# EAGLE library part OV7670 (library Misc)
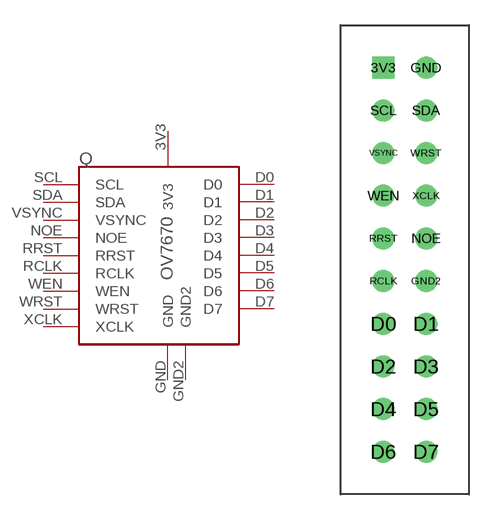
[diagram p0: symbol with the pads of OV7670; footprint OV7670]

Designator prefix Q

## OV7670  [OV7670]
3V3  3V3  pwr
D0  D0  out
D1  D1  out
D2  D2  out
D3  D3  out
D4  D4  out
D5  D5  out
D6  D6  out
D7  D7  out
GND  GND  pwr
GND2  GND2  pwr
NOE  NOE  in
RCLK  RCLK  in
RRST  RRST  in
SCL  SCL  in
SDA  SDA
VSYNC  VSYNC  out
WEN  WEN  in
WRST  WRST  in
XCLK  XCLK  out

## Footprint OV7670 (pad centres in mm)
drill 0.8 square: 3V3 0,0
drill 0.8: D0 0,-15.24; D1 2.54,-15.24; D2 0,-17.78; D3 2.54,-17.78; D4 0,-20.32; D5 2.54,-20.32; D6 0,-22.86; D7 2.54,-22.86; GND 2.54,0; GND2 2.54,-12.7; NOE 2.54,-10.16; RCLK 0,-12.7; RRST 0,-10.16; SCL 0,-2.54; SDA 2.54,-2.54; VSYNC 0,-5.08; WEN 0,-7.62; WRST 2.54,-5.08; XCLK 2.54,-7.62